# EAGLE library part ATXMEGA256A3BU-AU (library df4iah_ATxmega256A3BU-AU)
8/16-bit XMEGA A3BU Microcontroller,TQFP-64
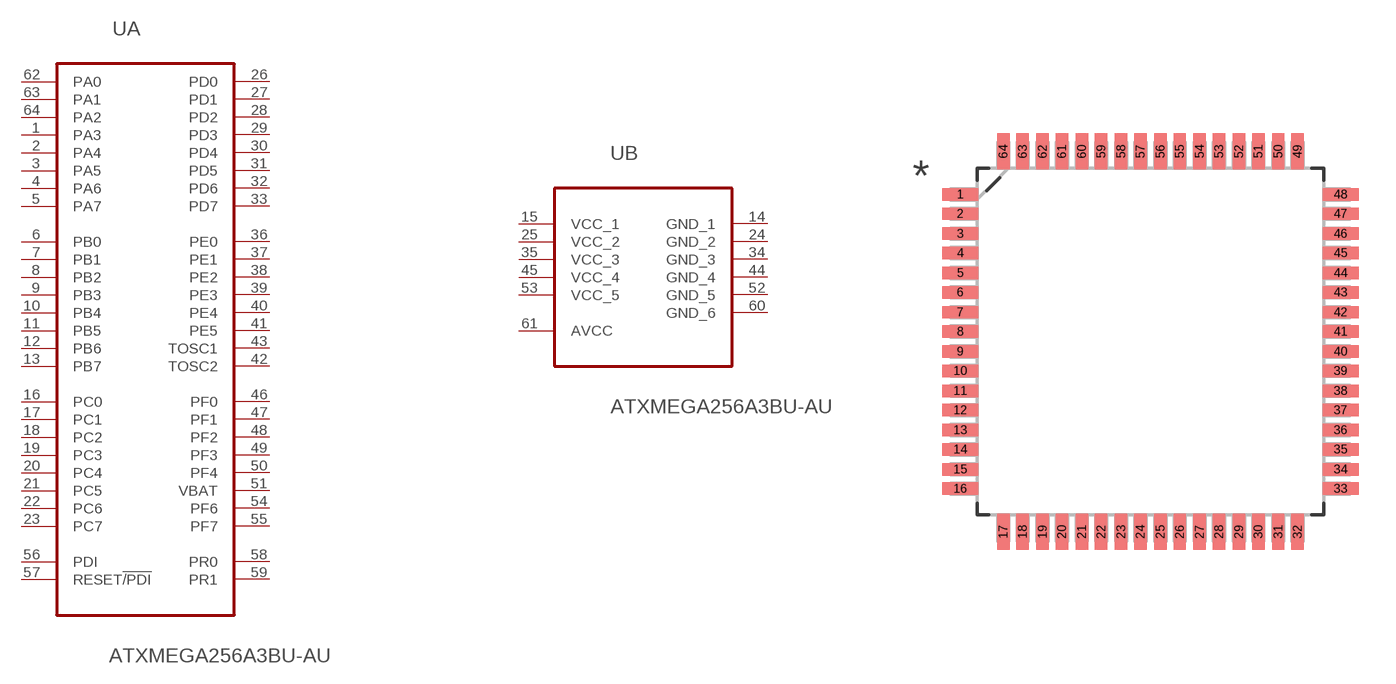
[diagram p0: symbol with the pads of QFP80P1600X1600X120-64N; footprint QFP80P1600X1600X120-64N]

Designator prefix U; gates A=ATXMEGA256A3BU-AU_A B=ATXMEGA256A3BU-AU_B

## ATXMEGA256A3BU-AU (MPN: ATXMEGA256A3BU-AU; OC_FARNELL: 2066305; OC_NEWARK: 68T3930; PACKAGE: TQFP-64; SUPPLIER: ATMEL)  [QFP80P1600X1600X120-64N]
1  A:PA3
2  A:PA4
3  A:PA5
4  A:PA6
5  A:PA7
6  A:PB0
7  A:PB1
8  A:PB2
9  A:PB3
10  A:PB4
11  A:PB5
12  A:PB6
13  A:PB7
14  B:GND_1  pas
15  B:VCC_1  pwr
16  A:PC0
17  A:PC1
18  A:PC2
19  A:PC3
20  A:PC4
21  A:PC5
22  A:PC6
23  A:PC7
24  B:GND_2  pas
25  B:VCC_2  pwr
26  A:PD0
27  A:PD1
28  A:PD2
29  A:PD3
30  A:PD4
31  A:PD5
32  A:PD6
33  A:PD7
34  B:GND_3  pas
35  B:VCC_3  pwr
36  A:PE0
37  A:PE1
38  A:PE2
39  A:PE3
40  A:PE4
41  A:PE5
42  A:TOSC2  pas
43  A:TOSC1  pas
44  B:GND_4  pas
45  B:VCC_4  pwr
46  A:PF0
47  A:PF1
48  A:PF2
49  A:PF3
50  A:PF4
51  A:VBAT  pwr
52  B:GND_5  pas
53  B:VCC_5  pwr
54  A:PF6
55  A:PF7
56  A:PDI  in
57  A:RESET!/PDI  in
58  A:PR0
59  A:PR1
60  B:GND_6  pas
61  B:AVCC  pwr
62  A:PA0
63  A:PA1
64  A:PA2

## Footprint QFP80P1600X1600X120-64N (pad centres in mm)
smd 1.473 x 0.508: 1 -7.747,5.994; 2 -7.747,5.207; 3 -7.747,4.394; 4 -7.747,3.607; 5 -7.747,2.794; 6 -7.747,2.007; 7 -7.747,1.194; 8 -7.747,0.406; 9 -7.747,-0.406; 10 -7.747,-1.194; 11 -7.747,-2.007; 12 -7.747,-2.794; 13 -7.747,-3.607; 14 -7.747,-4.394; 15 -7.747,-5.207; 16 -7.747,-5.994; 33 7.747,-5.994; 34 7.747,-5.207; 35 7.747,-4.394; 36 7.747,-3.607; 37 7.747,-2.794; 38 7.747,-2.007; 39 7.747,-1.194; 40 7.747,-0.406; 41 7.747,0.406; 42 7.747,1.194; 43 7.747,2.007; 44 7.747,2.794; 45 7.747,3.607; 46 7.747,4.394; 47 7.747,5.207; 48 7.747,5.994
smd 0.508 x 1.473: 17 -5.994,-7.747; 18 -5.207,-7.747; 19 -4.394,-7.747; 20 -3.607,-7.747; 21 -2.794,-7.747; 22 -2.007,-7.747; 23 -1.194,-7.747; 24 -0.406,-7.747; 25 0.406,-7.747; 26 1.194,-7.747; 27 2.007,-7.747; 28 2.794,-7.747; 29 3.607,-7.747; 30 4.394,-7.747; 31 5.207,-7.747; 32 5.994,-7.747; 49 5.994,7.747; 50 5.207,7.747; 51 4.394,7.747; 52 3.607,7.747; 53 2.794,7.747; 54 2.007,7.747; 55 1.194,7.747; 56 0.406,7.747; 57 -0.406,7.747; 58 -1.194,7.747; 59 -2.007,7.747; 60 -2.794,7.747; 61 -3.607,7.747; 62 -4.394,7.747; 63 -5.207,7.747; 64 -5.994,7.747